# EAGLE library part 2-1761603-1 (library Tyco_By_element14_Batch_1)
HEADER, STRAIGHT
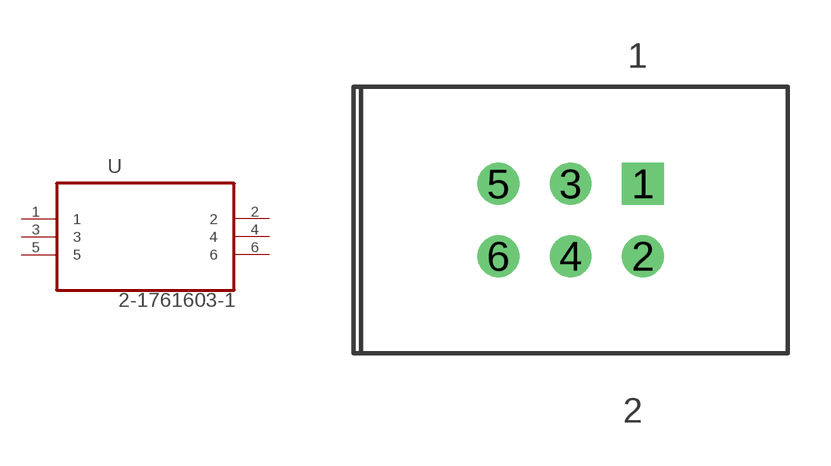
[diagram p45: symbol with the pads of TYCO_2-1761603-1; footprint TYCO_2-1761603-1]

Designator prefix U

## 2-1761603-1 (MPN: 2-1761603-1; OC_FARNELL: 1772801; OC_NEWARK: 42K6786; PACKAGE: 6-Way Male Header; SUPPLIER: Tyco Electronics)  [TYCO_2-1761603-1]
1  1  pas
2  2  pas
3  3  pas
4  4  pas
5  5  pas
6  6  pas

## Footprint TYCO_2-1761603-1 (pad centres in mm)
drill 0.965 square: 1 0,2.54
drill 0.965: 2 0,0; 3 -2.54,2.54; 4 -2.54,0; 5 -5.08,2.54; 6 -5.08,0